# Altium footprint library 046809610110846.PcbLib: 1 footprints
Each footprint in its own frame and in the unit in brackets; x right, y up, seen from the top. Pads: shape width x height; smd on the part's side, far side on the other; paste and mask are expansions set on the pad; w line width, h text height; cw(c..) or ccw(c..) is an arc to the next point about the centre after c.
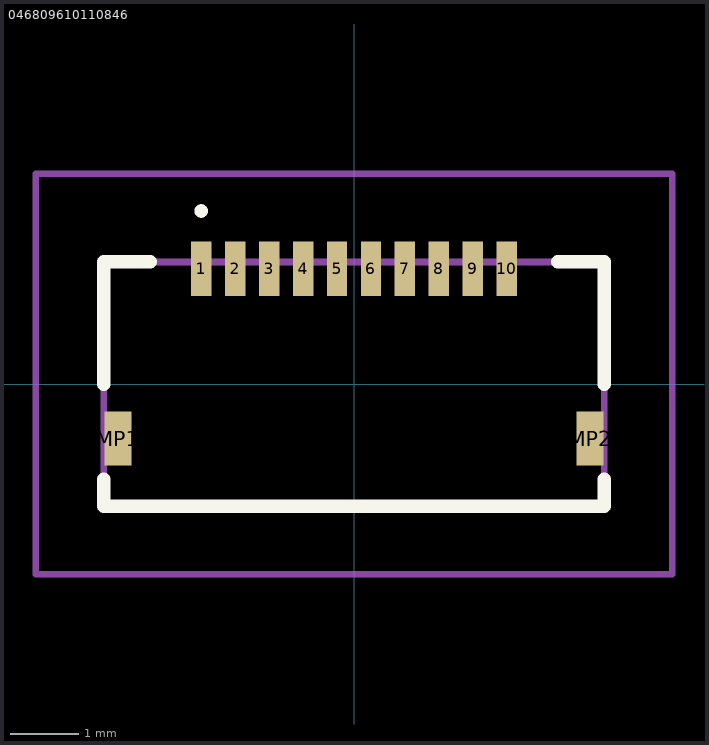
[diagram p0: the footprint, top view; thin cyan lines are the x and y axes]

## 046809610110846 [mm]
pads (12):
  rect 0.3x0.8 smd: 1(-2.25,1.7) 2(-1.75,1.7) 3(-1.25,1.7) 4(-0.75,1.7) 5(-0.25,1.7) 6(0.25,1.7) 7(0.75,1.7) 8(1.25,1.7) 9(1.75,1.7) 10(2.25,1.7)
  rect 0.4x0.8 smd: MP1(-3.475,-0.8) MP2(3.475,-0.8)
Top Overlay:
  lines w0.1: -2.25,2.5 -2.25,2.5 ; -2.25,2.5 ccw(c-2.25,2.55) -2.25,2.6 ; -2.25,2.5 cw(c-2.25,2.55) -2.25,2.6 ; -2.25,2.6 -2.25,2.6
  lines w0.2: -3.685,-1.4 -3.685,-1.8 ; -3.685,0 -3.685,1.8 -3,1.8 ; -3.2,-1.8 -3.685,-1.8 ; 3,1.8 3.685,1.8 3.685,0 ; 3.2,-1.8 3.685,-1.8 ; 3.685,-1.4 3.685,-1.8 ; -3.685,-1.8 3.685,-1.8
Mechanical 15:
  lines w0.1: -3.685,-1.8 3.685,-1.8 3.685,1.8 -3.685,1.8 -3.685,-1.8
Mechanical 20:
  lines w0.1: -4.685,-2.8 4.685,-2.8 4.685,3.1 -4.685,3.1 -4.685,-2.8